# Altium integrated library MTSW-106-12-L-S-790.IntLib: 1 symbol
Pins are listed as number, name and electrical type; pins without a type are passive.

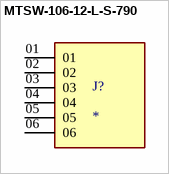
[diagram p0: symbol MTSW-106-12-L-S-790]

## MTSW-106-12-L-S-790
designator J?
HEADER, 6 CONTACTS, 1 ROW, THROUGH HOLE, 2.54 MM; Connector Systems:Board-to-Board; Pitch Spacing:2.54mm; No. of Rows:1Rows; No. of Contacts:6Contacts; Contact Termination Type:Through Hole; Product Range:MTSW Series; Gender:Header RoHS Compliant: Yes; MF: Samtec; MP: MTSW10612LS790; Value: *; Purchase-URL: https://pricing.snapeda.com/search/part/MTSW10612LS790/?ref=eda; Package: None; Availability: In Stock; SnapEDA_Link: https://www.snapeda.com/parts/MTSW10612LS790/Samtec/view-part/?ref=snap; Check_prices: https://www.snapeda.com/parts/MTSW10612LS790/Samtec/view-part/?ref=eda; Price: None
footprint SAMTEC_MTSW-106-12-L-S-790
pins: 01, 02, 03, 04, 05, 06